# Altium footprint library DIVERSOS.PcbLib: 16 footprints
Each footprint in its own frame and in the unit in brackets; x right, y up, seen from the top. Pads: shape width x height; smd on the part's side, far side on the other; paste and mask are expansions set on the pad; w line width, h text height; cw(c..) or ccw(c..) is an arc to the next point about the centre after c.
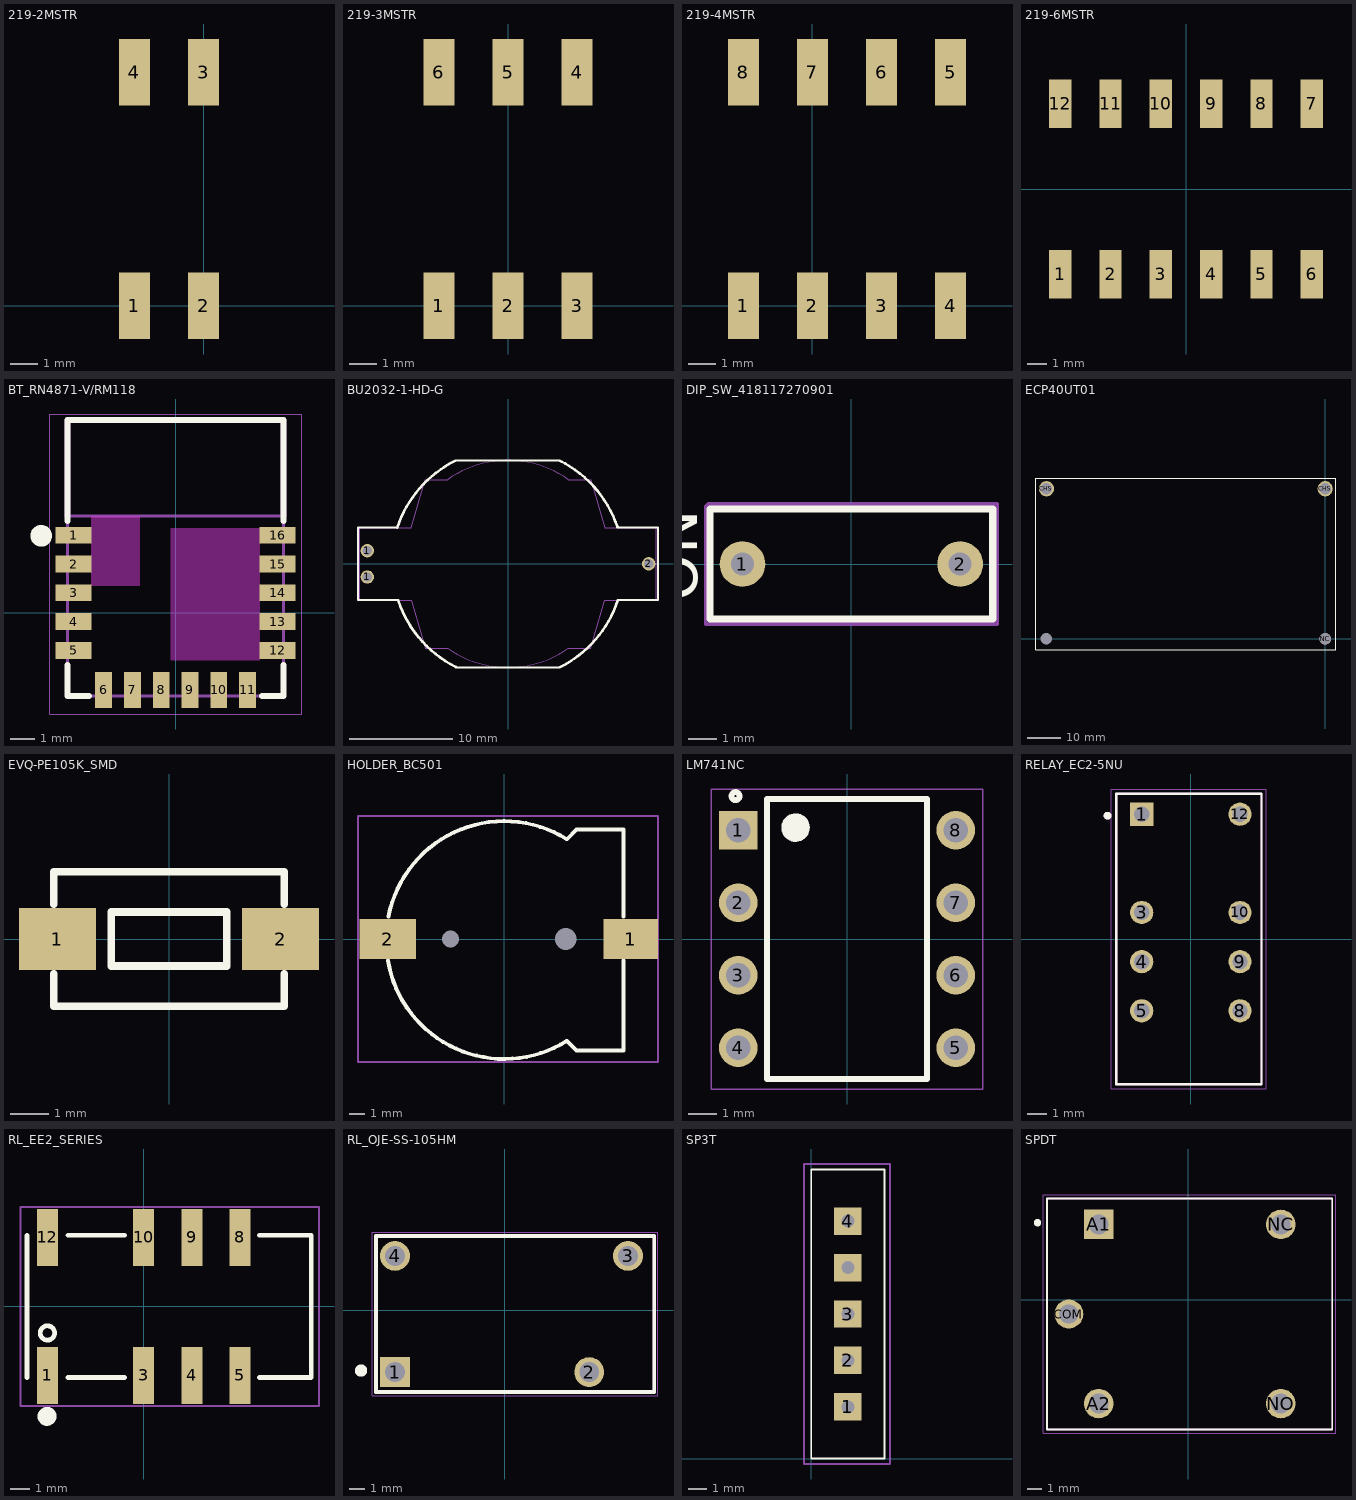
[diagram p0: the footprints below, top view; thin cyan lines are the x and y axes]

## 219-2MSTR [mm]
pads (4):
  rect 1.13x2.44 all layers, no hole: 1(-2.54,0) 2(0,0) 3(0,8.6) 4(-2.54,8.6)
3D body "219-2MSTR--3DModel-STEP-56544.STEP": height 4.58, standoff 0, extent -4.545,-0.637 2.005,9.273

## 219-3MSTR [mm]
pads (6):
  rect 1.13x2.44 all layers, no hole: 1(-2.54,0) 2(0,0) 3(2.54,0) 4(2.54,8.6) 5(0,8.6) 6(-2.54,8.6)
3D body "219-3poles.stp": height 4.48, standoff 0.18, extent -4.545,-0.637 4.545,9.273

## 219-4MSTR [mm]
pads (8):
  rect 1.13x2.44 all layers, no hole: 1(-2.54,0) 2(0,0) 3(2.54,0) 4(5.08,0) 5(5.08,8.6) 6(2.54,8.6) 7(0,8.6) 8(-2.54,8.6)
3D body "219-4MST.STEP": height 4.26, standoff -0.02, extent -4.545,-0.633 7.085,9.273

## 219-6MSTR [mm]
pads (12):
  rect 1.13x2.44 all layers, no hole: 1(-6.35,-4.3) 2(-3.81,-4.3) 3(-1.27,-4.3) 4(1.27,-4.3) 5(3.81,-4.3) 6(6.35,-4.3) 7(6.35,4.3) 8(3.81,4.3) 9(1.27,4.3) 10(-1.27,4.3) 11(-3.81,4.3) 12(-6.35,4.3)
3D body: height 6.45, standoff -4.1, extent 21.92,4.955 21.92,4.955
3D body "219-6MST--3DModel-STEP-56544.STEP": height 4.58, standoff 0, extent -8.355,-4.937 8.355,4.973

## BT_RN4871-V/RM118 [mm] "SMD 11.5X9"
height 2.1
pads (16):
  rect 1.5x0.7 smd: 1(-4.25,3.225) 2(-4.25,2.025) 3(-4.25,0.825) 4(-4.25,-0.375) 5(-4.25,-1.575) 12(4.25,-1.575) 13(4.25,-0.375) 14(4.25,0.825) 15(4.25,2.025) 16(4.25,3.225)
  rect 0.7x1.5 smd: 6(-3,-3.225) 7(-1.8,-3.225) 8(-0.6,-3.225) 9(0.6,-3.225) 10(1.8,-3.225) 11(3,-3.225)
Top Overlay:
  circle w0.5: c-5.6,3.2 r0.2
  lines w0.25: -4.5,-2.175 -4.5,-3.475 -3.6,-3.475 ; -4.5,3.825 -4.5,8.025 4.5,8.025 4.5,3.825 ; 3.6,-3.475 4.5,-3.475 4.5,-2.175
Keep-Out Layer:
  region: -0.2,3.525 3.5,3.525 3.5,-1.979 -0.2,-1.979
  region: -3.501,4.025 -1.5,4.025 -1.5,1.125 -3.501,1.125
  region: -3.502,4.025 -1.5,4.025 -1.5,1.124 -3.502,1.124
  region: -0.2,3.525 3.5,3.525 3.5,-1.977 -0.2,-1.977
  region: -0.2,3.525 3.5,3.525 3.5,-1.981 -0.2,-1.981
  region: -3.507,4.025 -1.5,4.025 -1.5,1.123 -3.507,1.123
  region: -0.2,3.525 3.5,3.525 3.5,-1.979 -0.2,-1.979
  region: -3.501,4.025 -1.5,4.025 -1.5,1.125 -3.501,1.125
  region: -3.502,4.025 -1.5,4.025 -1.5,1.124 -3.502,1.124
  region: -0.2,3.525 3.5,3.525 3.5,-1.977 -0.2,-1.977
  region: -0.2,3.525 3.5,3.525 3.5,-1.981 -0.2,-1.981
  region: -3.507,4.025 -1.5,4.025 -1.5,1.123 -3.507,1.123
  region: -0.2,3.525 3.5,3.525 3.5,-1.979 -0.2,-1.979
  region: -3.501,4.025 -1.5,4.025 -1.5,1.125 -3.501,1.125
  region: -3.502,4.025 -1.5,4.025 -1.5,1.124 -3.502,1.124
  region: -0.2,3.525 3.5,3.525 3.5,-1.977 -0.2,-1.977
  region: -0.2,3.525 3.5,3.525 3.5,-1.981 -0.2,-1.981
  region: -3.507,4.025 -1.5,4.025 -1.5,1.123 -3.507,1.123
Mechanical 4:
  lines w0.127: -4.5,-3.475 -4.5,4.025 ; -4.5,-3.475 4.5,-3.475 ; -4.5,-3.475 -4.5,4.025 ; -4.5,-3.475 4.5,-3.475 ; -4.5,4.025 4.5,4.025 ; -4.5,4.025 -4.5,8.025 4.5,8.025 4.5,4.025 ; -4.5,4.025 4.5,4.025 ; 4.5,-3.475 4.5,4.025 ; 4.5,-3.475 4.5,4.025
  lines w0.25: -4.5,4.025 -4.5,8.025 4.5,8.025 4.5,4.025
Mechanical 16:
  lines w0.05: -5.25,-4.225 -5.25,8.275 5.25,8.275 5.25,-4.225 -5.25,-4.225
3D body "User Library-Module_Microchip_RN4871.step": height 2.07, standoff -0.03, extent -4.5,-3.45 4.5,8.05

## BU2032-1-HD-G [mm] "C2032 Battery Holder"
height 5.3
pads (3):
  round 1.3 hole 0.9: 1(-13.6,-1.27) 1(-13.6,1.27) 2(13.6,0)
Top Overlay:
  lines w0.2: -10.7,3.5 -14.5,3.5 -14.5,-3.5 -10.65,-3.5 ; -5,-10 5,-10 ; -4.975,10 5.025,10 ; 10.675,3.5 14.5,3.5 14.5,-3.5 10.725,-3.5
  lines w0.254: -10.7,3.5 cw(c-0.087,-0.029) -5.089,9.974 ; -10.612,-3.537 ccw(c-0.025,0) -5.037,-9.973 ; 5.002,-10.004 ccw(c0,0) 10.613,-3.529 ; 5.012,9.973 cw(c0,0) 10.587,3.537
Mechanical 2:
  lines w0.01: -14.35,-3.5 -9.35,-3.5 -8,-8.15 -5.818,-8.15 ccw(c0,0) 5.818,-8.15 8,-8.15 9.35,-3.5 14.35,-3.5 14.35,3.5 9.35,3.5 8,8.15 5.818,8.15 ccw(c0,0) -5.818,8.15 -8,8.15 -9.35,3.5 -14.35,3.5 -14.35,-3.5
3D body "-BU2032-1-HD-G(CR2032 Battery Holder).STEP": height 5.35, standoff -3.7, extent -14.5,-10 14.5,10

## DIP_SW_418117270901 [mm] "Dip Switch SPST 1 Position Through Hole Slide (Standard) Actuator 25mA 24VDC"
height 5.7
pads (2):
  round 1.6 hole 0.8: 1(-3.81,0) 2(3.81,0)
Top Overlay:
  lines w0.25: -4.95,-1.92 -4.95,1.92 4.95,1.92 4.95,-1.92 -4.95,-1.92
  text "ON" at -5.4,-1.3 h1.52
Mechanical 16:
  lines w0.127: -5.1,-2.1 5.1,-2.1 5.1,2.1 -5,2.1 -5.1,2 -5.1,-2.1
3D body "418117270901 (rev1).stp": height 6.9, standoff -3.65, extent -4.95,-1.92 4.95,1.92

## ECP40UT01 [mm]
pads (4):
  round 4.5 hole 3.4: CHS(-82.6,44.5) CHS(0,44.5)
  round 1.524 hole 3.4: NC(-82.6,0)
  round 3.4 hole 3.4: NC(0,0)
Top Overlay:
  lines w0.254: -85.7,-3.2 -85.7,47.6 3.2,47.6 3.2,-3.2 -85.7,-3.2
3D body "FONTE_ECP40UT01.stp": height 29.61, standoff -3.81, extent -85.711,-3.313 3.189,47.487

## EVQ-PE105K_SMD [mm] "6.0 mmﾗ3.5 mm SMD 2 PIN"
height 5
pads (2):
  rect 2x1.6 smd: 1(-2.9,0) 2(2.9,0)
Top Overlay:
  lines w0.2: -3,-0.9 -3,-1.75 3,-1.75 3,-0.9 ; -3,0.9 -3,1.75 3,1.75 3,0.9 ; -1.5,-0.7 -1.5,0.7 1.5,0.7 1.5,-0.7 -1.5,-0.7
3D body "User Library-EVQ-PE105K.STEP": height 5.05, standoff 0.05, extent -3.6,-1.75 3.6,1.75

## HOLDER_BC501 [mm] "Battery Holder (Open) Coin, 12.0mm 1 Cell SMD (SMT) Tab"
height 4
pads (4):
  rect 3.54x2.6 smd: 1(8.23,0)
  rect 3.66x2.6 smd: 2(-7.57,0)
  round 0 hole 1.1: FX(-3.5,0)
  round 0 hole 1.4: FX(4,0)
Top Overlay:
  lines w0.254: -7.553,-1.406 ccw(c0,-0.14) 4.075,-6.625 4.7,-7.25 7.75,-7.25 7.75,-1.406 ; -7.518,1.459 cw(c0,0) 4.075,6.485 4.7,7.11 7.75,7.11 7.75,1.459
Mechanical 16:
  lines w0.15: -9.5,-8 -9.5,8 10,8 10,-8 -9.5,-8
3D body "BC501SM.STEP": height 4.1, standoff -0.84, extent -8.5,-7.49 9.5,7.491

## LM741NC [mm]
pads (8):
  rect 1.35x1.35 hole 0.85: 1(-3.81,3.81)
  round 1.35 hole 0.85: 2(-3.81,1.27) 3(-3.81,-1.27) 4(-3.81,-3.81) 5(3.81,-3.81) 6(3.81,-1.27) 7(3.81,1.27) 8(3.81,3.81)
Top Overlay:
  circle w0.2: c-1.9,3.9 r0.141
  circle w0.2: c-1.7,3.9 r0.2
  circle w0.2: c-1.8,3.9 r0.224
  circle w0.2: c-3.9,5 r0.141
  circle w0.2: c-1.8,3.9 r0.4
  lines w0.2: -2.8,-4.9 -2.8,4.9 2.8,4.9 2.8,-4.9 -2.8,-4.9
Mechanical 16:
  lines w0.05: -4.75,-5.25 -4.75,5.25 4.75,5.25 4.75,-5.25 -4.75,-5.25
3D body "LM741.STEP": height 5.28, standoff -2.63, extent -3.81,-4.885 3.81,4.885

## RELAY_EC2-5NU [mm]
pads (8):
  rect 1.2x1.2 hole 0.8: 1(-2.54,6.45)
  round 1.2 hole 0.8: 3(-2.54,1.37) 4(-2.54,-1.17) 5(-2.54,-3.71) 8(2.54,-3.71) 9(2.54,-1.17) 10(2.54,1.37) 12(2.54,6.45)
Top Overlay:
  circle w0.2: c-4.3,6.37 r0.1
  lines w0.127: -3.85,-7.5 3.65,-7.5 3.65,7.5 -3.85,7.5 -3.85,-7.5
Mechanical 13:
  circle w0.2: c-4.3,6.37 r0.1
  lines w0.127: -3.85,-7.5 3.65,-7.5 3.65,7.5 -3.85,7.5 -3.85,-7.5
Mechanical 15:
  lines w0.05: -4.1,-7.75 -4.1,7.75 3.9,7.75 3.9,-7.75 -4.1,-7.75
3D body "EC2-5NU--3DModel-STEP-56544.STEP": height 9.5, standoff -3.1, extent -3.85,-7.5 3.65,7.5

## RL_EE2_SERIES [mm] "SMD 6 PADS 15X10X7.5 (LXHXW)"
height 10
pads (8):
  rect 1.11x3 smd: 1(-5.08,-3.645) 3(0,-3.645) 4(2.54,-3.645) 5(5.08,-3.645) 8(5.08,3.645) 9(2.54,3.645) 10(0,3.645) 12(-5.08,3.645)
Top Overlay:
  circle w0.25: c-5.08,-1.4 r0.381
  circle w0.5: c-5.1,-5.8 r0.25
  lines w0.25: -4,-3.75 -1,-3.75 ; -4,3.75 -1,3.75 ; 6.1,-3.75 8.845,-3.75 8.845,3.75 6.1,3.75 ; -6.155,-3.75 -6.155,-3.75 ; -6.155,-3.75 -6.155,3.75 ; -6.155,3.75 -6.155,3.75
Mechanical 16:
  lines w0.1: -6.5,-5.25 9.25,-5.25 9.25,5.25 8.845,5.25 -6.5,5.25 -6.5,-5.25
3D body "EE2-5NU-L.step": height 10.41, standoff 0.05, extent -6.155,-4.75 8.845,4.75

## RL_OJE-SS-105HM [mm] "SPST-NO (1 Form A)   PTH 4PIN"
height 14.7
pads (4):
  rect 1.95x1.95 hole 1.3: 1(-7.17,-4.039)
  round 1.95 hole 1.3: 2(5.53,-4.039) 3(8.07,3.561) 4(-7.17,3.561)
Top Overlay:
  circle w0.4: c-9.39,-3.939 r0.2
  lines w0.25: -8.42,-5.339 9.78,-5.339 9.78,4.861 -8.42,4.861 -8.42,-5.339
Mechanical 4:
  circle w0.4: c-7.17,-4.039 r0.2
  circle w0.4: c-7.17,-4.039 r0.2
  lines w0.25: -8.42,-5.339 -8.42,4.861 ; -8.42,-5.339 9.78,-5.339 ; -8.42,-5.339 -8.42,4.861 ; -8.42,-5.339 9.78,-5.339 ; -8.42,4.861 9.78,4.861 ; -8.42,4.861 9.78,4.861 ; 9.78,-5.339 9.78,4.861 ; 9.78,-5.339 9.78,4.861
Mechanical 16:
  lines w0.05: -8.67,-5.589 10.03,-5.589 10.03,5.111 -8.67,5.111 -8.67,-5.589
3D body: height 0.5, standoff -3.5, extent -7.37,3.061 -6.97,4.061
3D body: height 0.5, standoff -3.5, extent 7.87,3.061 8.27,4.061
3D body: height 0.5, standoff -3.5, extent 5.33,-4.539 5.73,-3.539
3D body: height 0.5, standoff -3.5, extent -7.37,-4.539 -6.97,-3.539
3D body: height 14.7, standoff 0.1, extent -8.4,-5.3 9.8,4.9

## SP3T [mm] "SWITCH SLIDE SP3T 100MA 30V"
height 10
pads (5):
  rect 1.5x1.5 hole 0.7 square: 1(2,2.82) 2(2,5.36) 3(2,7.9) 4(2,12.98) ""(2,10.44)
Top Overlay:
  lines w0.1: 0,0 0,15.8 4,15.8 4,0 0,0
Mechanical 16:
  lines w0.1: -0.4,-0.3 -0.4,16.1 4.3,16.1 4.3,-0.3 -0.4,-0.3
3D body: height 0.4, standoff -3, extent 1.8,12.685 2.2,13.285
3D body: height 0.4, standoff -3, extent 1.8,7.605 2.2,8.205
3D body: height 0.4, standoff -3, extent 1.8,5.065 2.2,5.665
3D body: height 0.4, standoff -3, extent 1.8,2.525 2.2,3.125
3D body: height 4.5, standoff 0.4, extent 0.2,0.2 3.8,15.6
3D body: height 2.25, standoff 0.4, extent 0,0 4,15.8
3D body: height 4.7, standoff 0.4, extent 1.4,6 2.6,10
3D body: height 6.9, standoff 0.4, extent 1.6,7.15 2.4,8.65

## SPDT [mm] "SRD-05VDC-SL-C"
height 15.3
pads (5):
  rect 1.98x1.98 hole 1.32: A1(-6.006,5.031)
  round 1.98 hole 1.32: A2(-6.006,-6.969) NC(6.194,5.031) NO(6.194,-6.969)
  round 1.935 hole 1.29: COM(-8.006,-0.969)
Top Overlay:
  circle w0.3: c-10.106,5.15 r0.1
  lines w0.127: -9.456,-8.719 9.644,-8.719 9.644,6.781 -9.456,6.781 -9.456,-8.719
Mechanical 4:
  lines w0.127: -9.456,-8.719 9.644,-8.719 ; -9.456,-8.719 -9.456,6.781 ; -9.456,-8.719 9.644,-8.719 ; -9.456,-8.719 -9.456,6.781 ; -9.456,6.781 9.644,6.781 ; -9.456,6.781 9.644,6.781 ; 9.644,-8.719 9.644,6.781 ; 9.644,-8.719 9.644,6.781
Mechanical 16:
  lines w0.05: -9.706,-8.969 9.894,-8.969 9.894,7.031 -9.706,7.031 -9.706,-8.969
3D body "RELAY_5LEAD.STEP": height 15.5, standoff -4.3, extent -9.6,-8.75 9.6,6.75